# Altium schematic symbol library eecs52_Tim.SchLib: 2 symbols
Pins are listed as number, name and electrical type; pins without a type are passive.

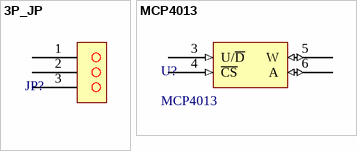
[diagram p0: symbols 3P_JP to MCP4013]

## 3P_JP
designator JP?
footprint 3P_JP
pins: 1, 2, 3

## MCP4013
designator U?
footprint SOT-23-6
pins: 1 VCC hidden, 2 GND hidden, 3 U/~{D} (in), 4 ~{CS} (in), 5 W (io), 6 A (io)